# Altium schematic symbol library Artemis_Plus.SCHLIB: 35 symbols
Pins are listed as number, name and electrical type; pins without a type are passive.

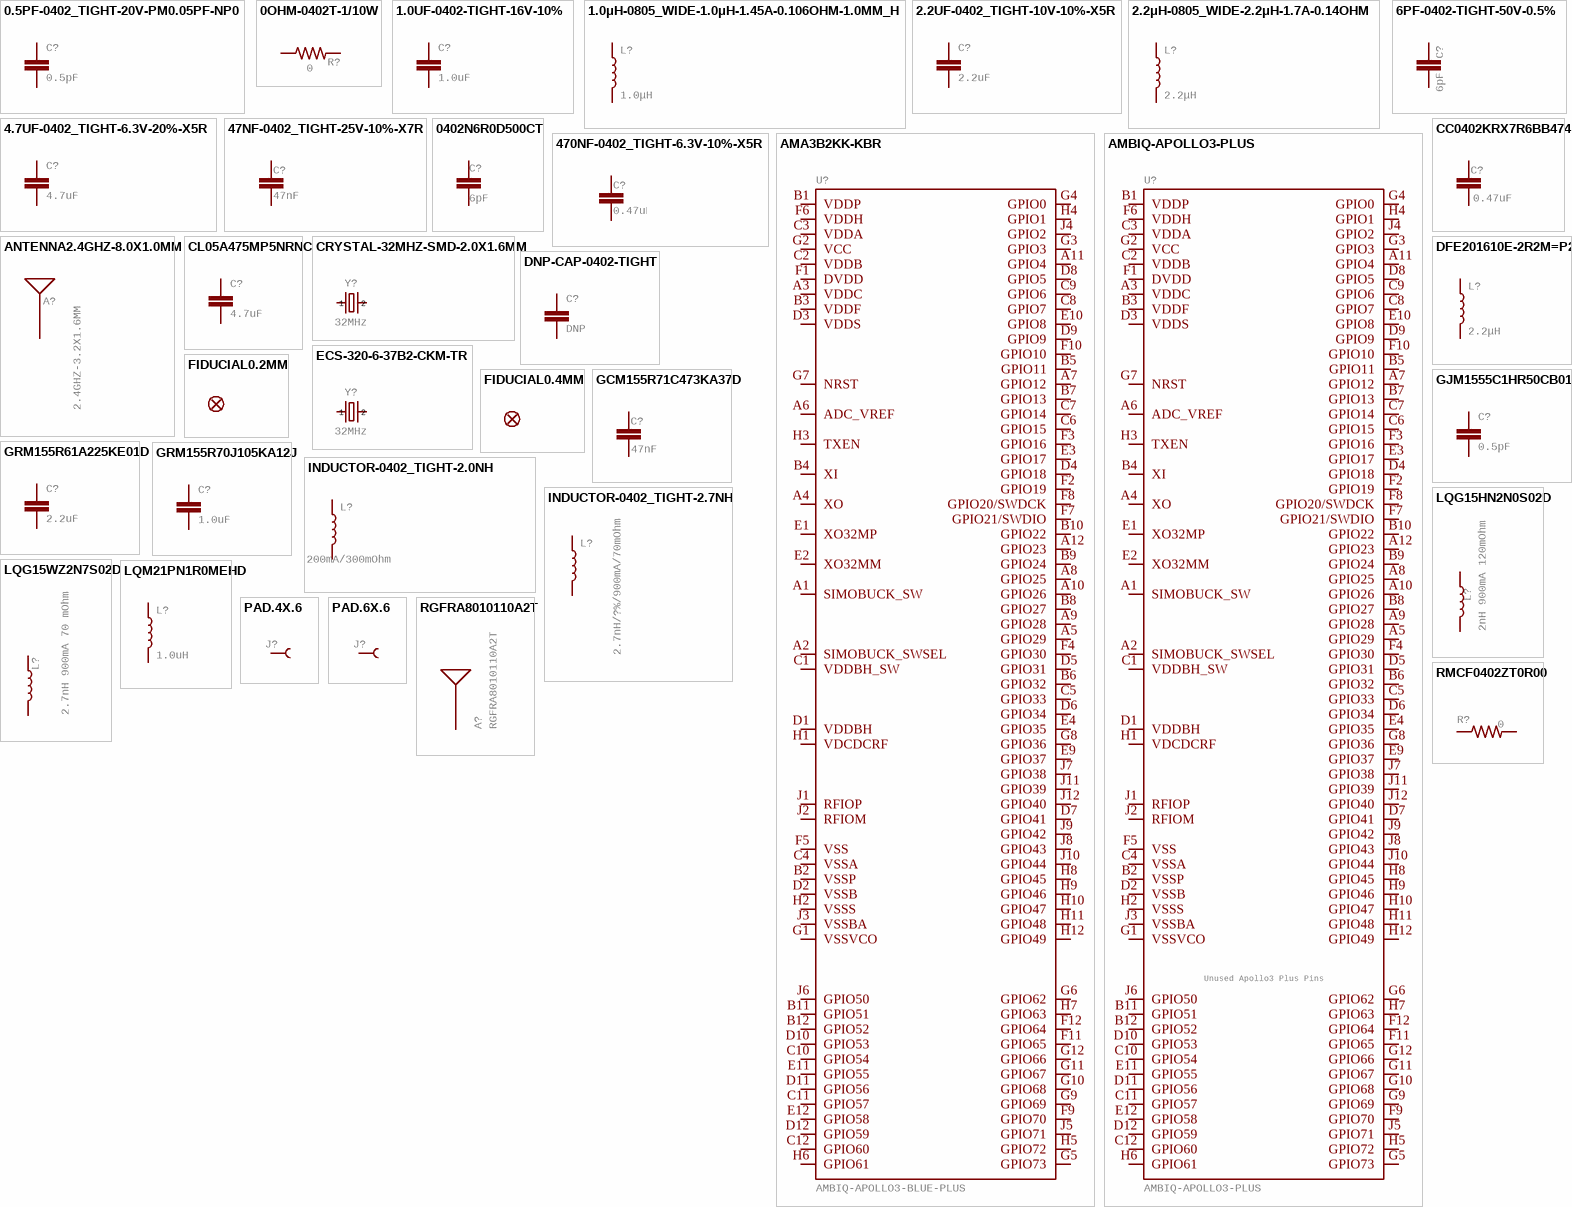
[diagram p0: symbols 0.5PF-0402_TIGHT-20V-PM0.05PF-NP0 to RMCF0402ZT0R00]

## 0.5PF-0402_TIGHT-20V-PM0.05PF-NP0
designator C?, comment 0.5pF
0.5pF ceramic capacitors    A capacitor is a passive two-terminal electrical component used to store electrical energy temporarily in an electric field.; GateName_1: G$1; SymbolName_1: CAP; DeviceName: -0402_TIGHT-20V-PM0.05PF-NP0; PROD_ID: CAP-14231; LibraryName: SparkFun-Capacitors; DeviceSetName: 0.5PF
footprint 0402-TIGHT
pins: 1, 2

## 0OHM-0402T-1/10W
designator R?, comment 0
0Î© resistor    A resistor is a passive two-terminal electrical component that implements electrical resistance as a circuit element. Resistors act to reduce current flow, and, at the same time, act to lower voltage levels within circuits. - Wikipedia; GateName_1: G$1; DeviceName: -0402T-1/10W; DeviceSetName: 0OHM; PROD_ID: RES-14244; SymbolName_1: RESISTOR; LibraryName: SparkFun-Resistors
footprint 0402-TIGHT
pins: 1, 2

## 1.0UF-0402-TIGHT-16V-10%
designator C?, comment 1.0uF
1ÂµF ceramic capacitors    A capacitor is a passive two-terminal electrical component used to store electrical energy temporarily in an electric field.; GateName_1: G$1; SymbolName_1: CAP; DeviceName: -0402-TIGHT-16V-10%; PROD_ID: CAP-12417; LibraryName: ambiq; DeviceSetName: 1.0UF
footprint 0402-TIGHT
pins: 1, 2

## 1.0μH-0805_WIDE-1.0μH-1.45A-0.106OHM-1.0MM_H
designator L?, comment 1.0μH
1.0Î¼H Inductor    Resist changes in electrical current. Basically a coil of wire.   SparkFun Products:  SparkFun Edge; GateName_1: G$1; DeviceName: -0805_WIDE-1.0μH-1.45A-0.106OHM-1.0MM_H; PROD_ID: NDUC-14375; SymbolName_1: INDUCTOR; LibraryName: SparkFun-Coils; DeviceSetName: 1.0μH
footprint 0805-WIDE
pins: 1, 2

## 2.2UF-0402_TIGHT-10V-10%-X5R
designator C?, comment 2.2uF
2.2ÂµF ceramic capacitors    A capacitor is a passive two-terminal electrical component used to store electrical energy temporarily in an electric field.; GateName_1: G$1; SymbolName_1: CAP; DeviceName: -0402_TIGHT-10V-10%-X5R; PROD_ID: CAP-14232; LibraryName: SparkFun-Capacitors; DeviceSetName: 2.2UF
footprint 0402-TIGHT
pins: 1, 2

## 2.2μH-0805_WIDE-2.2μH-1.7A-0.14OHM
designator L?, comment 2.2μH
2.2Î¼H Inductor    Resist changes in electrical current. Basically a coil of wire.   SparkFun Products:  SparkFun Edge - HX711; GateName_1: G$1; DeviceName: -0805_WIDE-2.2μH-1.7A-0.14OHM; PROD_ID: NDUC-14234; SymbolName_1: INDUCTOR; LibraryName: SparkFun-Coils; DeviceSetName: 2.2μH
footprint 0805-WIDE
pins: 1, 2

## 4.7UF-0402_TIGHT-6.3V-20%-X5R
designator C?, comment 4.7uF
4.7ÂµF ceramic capacitors    A capacitor is a passive two-terminal electrical component used to store electrical energy temporarily in an electric field.; GateName_1: G$1; SymbolName_1: CAP; DeviceName: -0402_TIGHT-6.3V-20%-X5R; PROD_ID: CAP-14240; LibraryName: SparkFun-Capacitors; DeviceSetName: 4.7UF
footprint 0402-TIGHT
pins: 1, 2

## 6PF-0402-TIGHT-50V-0.5%
designator C?, comment 6pF
6pF ceramic capacitors    A capacitor is a passive two-terminal electrical component used to store electrical energy temporarily in an electric field.; GateName_1: G$1; SymbolName_1: CAP; DeviceName: -0402-TIGHT-50V-0.5%; PROD_ID: CAP-13455; LibraryName: ambiq; DeviceSetName: 6PF
footprint 0402-TIGHT
pins: 1, 2

## 47NF-0402_TIGHT-25V-10%-X7R
designator C?, comment 47nF
47nF ceramic capacitors    A capacitor is a passive two-terminal electrical component used to store electrical energy temporarily in an electric field.; GateName_1: G$1; SymbolName_1: CAP; DeviceName: -0402_TIGHT-25V-10%-X7R; PROD_ID: CAP-14243; LibraryName: SparkFun-Capacitors; DeviceSetName: 47NF
footprint 0402-TIGHT
pins: 1, 2

## 0402N6R0D500CT
designator C?, comment 6pF
0402 6 pF 50 V ±0.5 pF Tolerance C0G/NP0 SMT Multilayer Ceramic Capacitor; Manufacturer: Walsin Technologies; Manufacturer Part Number: 0402N6R0D500CT; Voltage Rating: 50V; Dielectric: C0G; Supplier 1: Digi-Key; Supplier Part Number 1: 1292-1348-1-ND; RoHS: Yes; Category: Ceramic Capacitors; Stock 1: 55050; Pricing 1: 1=0.1, 10=0.024, 50=0.0134, 100=0.0109, 500=0.00778, 1000=0.00611, 2500=0.00556, 5000=0.00511 (USD); Case/Package: 0402; Case Code (Metric): 1005; Case Code (Imperial): 0402; Min Operating Temperature: -55°C; Max Operating Temperature: 125°C; Value: 6pF; Packaging: Tape and Reel; Voltage Rating (DC): 50V; Reach SVHC Compliant: Unknown; RoHS Compliant: Yes; Lead Free: 5697LeadFree; ComponentLink1URL: http://www.farnell.com/datasheets/2340522.pdf?src-supplier=Farnell; ComponentLink1Description: http://www.farnell.com/datasheets/2340522.pdf?src-supplier=Farnell; ComponentLink2URL: http://www.farnell.com/datasheets/1958513.pdf?src-supplier=Farnell; ComponentLink2Description: http://www.farnell.com/datasheets/1958513.pdf?src-supplier=Farnell; ComponentLink3URL: http://www.passivecomponent.com/wp-content/uploads/2018/10/MLCC.pdf?src-supplier=Digi-Key; ComponentLink3Description: http://www.passivecomponent.com/wp-content/uploads/2018/10/MLCC.pdf?src-supplier=Digi-Key; ComponentLink4URL: https://datasheet.octopart.com/0402N6R0D500CT-Walsin-Technologies-datasheet-85392065.pdf?src-supplier=Element14; ComponentLink4Description: https://datasheet.octopart.com/0402N6R0D500CT-Walsin-Technologies-datasheet-85392065.pdf?src-supplier=Element14; ComponentLink5URL: https://datasheet.octopart.com/0402N6R0D500CT-Walsin-Technologies-datasheet-136037192.pdf?src-supplier=TECHDesign; ComponentLink5Description: https://datasheet.octopart.com/0402N6R0D500CT-Walsin-Technologies-datasheet-136037192.pdf?src-supplier=TECHDesign
footprint 0402-TIGHT
footprint 0402-TIGHT-C (0402-TIGHT Capacitor)
pins: 1, 2

## 470NF-0402_TIGHT-6.3V-10%-X5R
designator C?, comment 0.47uF
0.47uF/470nF ceramic capacitors    A capacitor is a passive two-terminal electrical component used to store electrical energy temporarily in an electric field.; GateName_1: G$1; SymbolName_1: CAP; DeviceName: -0402_TIGHT-6.3V-10%-X5R; DeviceSetName: 470NF; PROD_ID: CAP-14242; LibraryName: SparkFun-Capacitors
footprint 0402-TIGHT
pins: 1, 2

## AMA3B2KK-KBR
designator U?, comment AMBIQ-APOLLO3-BLUE-PLUS
Apollo3 Blue Plus 96 MHz Cortex M4F, 2048 KB Flash, 768 KB RAM, BLE 5, BGA; Manufacturer: Ambiq Micro; Manufacturer Part Number: AMA3B2KK-KBR; Supplier 1: Digi-Key; Supplier Part Number 1: 5128-AMA3B2KK-KBRCT-ND; RoHS: No; Category: Uncategorized; Stock 1: 2496; Pricing 1: 1=6.61, 10=5.972, 25=5.694, 100=4.944, 250=4.72176, 500=4.30512, 1000=3.74962, 2500=3.61075 (USD)
footprint BGA-104-5.3X4.3MM
footprint BGA-104-5.3X4.3MM - SM (BGA-104-5.3X4.3MM With Solder Mask Defined)
footprint BGA-104-5.3X4.3MM - Sprite-mixed-0.2-0.19 (BGA-104-5.3X4.3MM)
footprint BGA-104-5.3X4.3MM - Sprite-mixed-0.2-0.19 - 3DModel (BGA-104-5.3X4.3MM)
pins: A1 SIMOBUCK_SW (io), A2 SIMOBUCK_SWSEL (io), A3 VDDC (io), A4 XO (io), A5 GPIO29 (io), A6 ADC_VREF (io), A7 GPIO12 (io), A8 GPIO25 (io), A9 GPIO28 (io), A10 GPIO26 (io), A11 GPIO4 (io), A12 GPIO23 (io), B1 VDDP (io), B2 VSSP (io), B3 VDDF (io), B4 XI (io), B5 GPIO11 (io), B6 GPIO32 (io), B7 GPIO13 (io), B8 GPIO27 (io), B9 GPIO24 (io), B10 GPIO22 (io), B11 GPIO51 (io), B12 GPIO52 (io), C1 VDDBH_SW (io), C2 VDDB (io), C3 VDDA (io), C4 VSSA (io), C5 GPIO33 (io), C6 GPIO15 (io), C7 GPIO14 (io), C8 GPIO7 (io), C9 GPIO6 (io), C10 GPIO54 (io), C11 GPIO57 (io), C12 GPIO60 (io), D1 VDDBH (io), D2 VSSB (io), D3 VDDS (io), D4 GPIO18 (io), D5 GPIO31 (io), D6 GPIO34 (io), D7 GPIO41 (io), D8 GPIO5 (io), D9 GPIO9 (io), D10 GPIO53 (io), D11 GPIO56 (io), D12 GPIO59 (io), E1 XO32MP (io), E2 XO32MM (io), E3 GPIO17 (io), E4 GPIO35 (io), E9 GPIO37 (io), E10 GPIO8 (io), E11 GPIO55 (io), E12 GPIO58 (io), F1 DVDD (io), F2 GPIO19 (io), F3 GPIO16 (io), F4 GPIO30 (io), F5 VSS (io), F6 VDDH (io), F7 GPIO21/SWDIO (io), F8 GPIO20/SWDCK (io), F9 GPIO70 (io), F10 GPIO10 (io), F11 GPIO65 (io), F12 GPIO64 (io), G1 VSSVCO (io), G2 VCC (io), G3 GPIO3 (io), G4 GPIO0 (io), G5 GPIO73 (io), G6 GPIO62 (io), G7 NRST (io), G8 GPIO36 (io), G9 GPIO69 (io), G10 GPIO68 (io), G11 GPIO67 (io), G12 GPIO66 (io), H1 VDCDCRF (io), H2 VSSS (io), H3 TXEN (io), H4 GPIO1 (io), H5 GPIO72 (io), H6 GPIO61 (io), H7 GPIO63 (io), H8 GPIO45 (io), H9 GPIO46 (io), H10 GPIO47 (io), H11 GPIO48 (io), H12 GPIO49 (io), J1 RFIOP (io), J2 RFIOM (io), J3 VSSBA (io), J4 GPIO2 (io), J5 GPIO71 (io), J6 GPIO50 (io), J7 GPIO38 (io), J8 GPIO43 (io), J9 GPIO42 (io), J10 GPIO44 (io), J11 GPIO39 (io), J12 GPIO40 (io)

## AMBIQ-APOLLO3-PLUS
designator U?  UnusedApollo3PlusPins: Unused Apollo3 Plus Pins
GateName_1: G$1; SymbolName_1: ABMIQ-APOLLO_3_PLUS; LibraryName: SparkFun-IC-Microcontroller; DeviceSetName: AMBIQ-APOLLO3-PLUS; PROD_ID: PROD_ID
footprint BGA-104-5.3X4.3MM
footprint BGA-104-5.3X4.3MM - SM (BGA-104-5.3X4.3MM With Solder Mask Defined)
footprint BGA-104-5.3X4.3MM - Sprite-mixed-0.2-0.19 (BGA-104-5.3X4.3MM)
pins: A1 SIMOBUCK_SW (io), A2 SIMOBUCK_SWSEL (io), A3 VDDC (io), A4 XO (io), A5 GPIO29 (io), A6 ADC_VREF (io), A7 GPIO12 (io), A8 GPIO25 (io), A9 GPIO28 (io), A10 GPIO26 (io), A11 GPIO4 (io), A12 GPIO23 (io), B1 VDDP (io), B2 VSSP (io), B3 VDDF (io), B4 XI (io), B5 GPIO11 (io), B6 GPIO32 (io), B7 GPIO13 (io), B8 GPIO27 (io), B9 GPIO24 (io), B10 GPIO22 (io), B11 GPIO51 (io), B12 GPIO52 (io), C1 VDDBH_SW (io), C2 VDDB (io), C3 VDDA (io), C4 VSSA (io), C5 GPIO33 (io), C6 GPIO15 (io), C7 GPIO14 (io), C8 GPIO7 (io), C9 GPIO6 (io), C10 GPIO54 (io), C11 GPIO57 (io), C12 GPIO60 (io), D1 VDDBH (io), D2 VSSB (io), D3 VDDS (io), D4 GPIO18 (io), D5 GPIO31 (io), D6 GPIO34 (io), D7 GPIO41 (io), D8 GPIO5 (io), D9 GPIO9 (io), D10 GPIO53 (io), D11 GPIO56 (io), D12 GPIO59 (io), E1 XO32MP (io), E2 XO32MM (io), E3 GPIO17 (io), E4 GPIO35 (io), E9 GPIO37 (io), E10 GPIO8 (io), E11 GPIO55 (io), E12 GPIO58 (io), F1 DVDD (io), F2 GPIO19 (io), F3 GPIO16 (io), F4 GPIO30 (io), F5 VSS (io), F6 VDDH (io), F7 GPIO21/SWDIO (io), F8 GPIO20/SWDCK (io), F9 GPIO70 (io), F10 GPIO10 (io), F11 GPIO65 (io), F12 GPIO64 (io), G1 VSSVCO (io), G2 VCC (io), G3 GPIO3 (io), G4 GPIO0 (io), G5 GPIO73 (io), G6 GPIO62 (io), G7 NRST (io), G8 GPIO36 (io), G9 GPIO69 (io), G10 GPIO68 (io), G11 GPIO67 (io), G12 GPIO66 (io), H1 VDCDCRF (io), H2 VSSS (io), H3 TXEN (io), H4 GPIO1 (io), H5 GPIO72 (io), H6 GPIO61 (io), H7 GPIO63 (io), H8 GPIO45 (io), H9 GPIO46 (io), H10 GPIO47 (io), H11 GPIO48 (io), H12 GPIO49 (io), J1 RFIOP (io), J2 RFIOM (io), J3 VSSBA (io), J4 GPIO2 (io), J5 GPIO71 (io), J6 GPIO50 (io), J7 GPIO38 (io), J8 GPIO43 (io), J9 GPIO42 (io), J10 GPIO44 (io), J11 GPIO39 (io), J12 GPIO40 (io)

## ANTENNA2.4GHZ-8.0X1.0MM
designator A?, comment 2.4GHZ-3.2X1.6MM
Single-ended Antennae    2.4GHz and antennae with just one terminal. These are all chip antennae.   2.4GHz (WiFi/BT/ZigBee) Antennae ANT-2.4GHZ-6.5X2.2MM - 6.5 x 2.2 mm chip antenna. (SparkFun Product)  ANT-2.4GHZ8.0X1.0MM -  8.0 x 1.0 mm chip antenna. (Datasheet)  ANT-2.4GHZ9.5X2.0MM - 9.5 x 2.0 mm chip antenna. (SparkFun Product); GateName_1: G$1; DeviceName: 2.4GHZ-8.0X1.0MM; PROD_ID: ANT-14377; SymbolName_1: ANTENNA; LibraryName: SparkFun-RF; DeviceSetName: ANTENNA
footprint ANT-2.4GHZ-8.0X1.0MM
pins: FEED SIGNAL (io)

## CC0402KRX7R6BB474
designator C?, comment 0.47uF
Multilayer Ceramic Capacitor, 0.47 uF, 50 V, ± 2%, C0G (NP0), 0402 [1005 Metric]; Manufacturer: Yageo; Manufacturer Part Number: CC0402KRX7R6BB474; Material: 4241ConductorMaterial; Value: 470nF; Voltage Rating: 10V; Tolerance: 10%; Dielectric: X7R; Temperature Coefficient: 30ppm/°C; Supplier 1: Digi-Key; Supplier Part Number 1: 13-CC0402KRX7R6BB474CT-ND; RoHS: Yes; Category: Ceramic Capacitors; Stock 1: 3340; Pricing 1: 10=0.17, 50=0.1022, 100=0.0864, 500=0.05908, 1000=0.05227, 2500=0.05, 5000=0.04545 (USD); Mounting Technology: Surface Mount; Case/Package: 0402; Min Operating Temperature: -55°C; Max Operating Temperature: 125°C; Packaging: Tape and Reel; Voltage Rating (DC): 10V; Series: CC; Length: 0.039inch; Width: 0.02inch; Height: 550um; Thickness: 0.022inch; Lead Free: Lead Free; Halogen Free: Halogen Free; RoHS Compliant: Yes; ComponentLink1URL: http://www.yageo.com/documents/recent/UPY-GPHC_X7R_6.3V-to-50V_18.pdf?src-supplier=Digi-Key; ComponentLink1Description: http://www.yageo.com/documents/recent/UPY-GPHC_X7R_6.3V-to-50V_18.pdf?src-supplier=Digi-Key; ComponentLink2URL: https://datasheet.octopart.com/CC0402KRX7R6BB474-Yageo-datasheet-151948686.pdf?src-supplier=Farnell; ComponentLink2Description: https://datasheet.octopart.com/CC0402KRX7R6BB474-Yageo-datasheet-151948686.pdf?src-supplier=Farnell; ComponentLink3URL: https://datasheet.octopart.com/CC0402KRX7R6BB474-Yageo-datasheet-166511530.pdf?src-supplier=Future+Electronics; ComponentLink3Description: https://datasheet.octopart.com/CC0402KRX7R6BB474-Yageo-datasheet-166511530.pdf?src-supplier=Future+Electronics
footprint 0402-TIGHT
footprint 0402-TIGHT-C (0402-TIGHT Capacitor)
pins: 1, 2

## CL05A475MP5NRNC
designator C?, comment 4.7uF
Multilayer Ceramic Capacitor, 4.7 uF, 10 V, ± 20%, X5R, 0402 [1005 Metric]; Manufacturer: Samsung; Manufacturer Part Number: CL05A475MP5NRNC; Material: 4241ConductorMaterial; Voltage Rating: 10V; Supplier 1: Digi-Key; Supplier Part Number 1: 1276-1482-1-ND; RoHS: Yes; Category: Ceramic Capacitors; Stock 1: 3126621; Pricing 1: 1=0.1, 10=0.068, 50=0.0368, 100=0.0301, 500=0.0215, 1000=0.01689, 2500=0.01535, 5000=0.01412 (USD); Mounting Technology: Surface Mount; Case/Package: 0402; Case Code (Metric): 1005; Case Code (Imperial): 0402; Min Operating Temperature: -55°C; Max Operating Temperature: 85°C; Packaging: Cut Tape; Value: 4.7uF; Tolerance: 20%; Dielectric: X5R; Series: CL; Height: 550um; Lead Free: Lead Free; RoHS Compliant: Yes; ComponentLink1URL: https://datasheet.ciiva.com/25786/cl05a475mp5nrnc-25786963.pdf?src-supplier=Digi-Key; ComponentLink1Description: https://datasheet.ciiva.com/25786/cl05a475mp5nrnc-25786963.pdf?src-supplier=Digi-Key; ComponentLink2URL: https://datasheet.ciiva.com/16437/cl05b104kq5nnnc-16437353.pdf?src-supplier=Future+Electronics; ComponentLink2Description: https://datasheet.ciiva.com/16437/cl05b104kq5nnnc-16437353.pdf?src-supplier=Future+Electronics
footprint 0402-TIGHT
footprint 0402-TIGHT-C (0402-TIGHT Capacitor)
pins: 1, 2

## CRYSTAL-32MHZ-SMD-2.0X1.6MM
designator Y?, comment 32MHz
32MHz Crystal    Digikey Example Frequency: 32MHz  Frequency Stability: Â±20ppm  Frequency Tolerance: Â±20ppm  Load Capacitance: 6pF       SparkFun Products SparkFun nRF52832 Breakout; GateName_1: G$1; DeviceName: -SMD-2.0X1.6MM; DeviceSetName: CRYSTAL-32MHZ; PROD_ID: XTAL-13459; SymbolName_1: CRYSTAL; LibraryName: SparkFun-Clocks; 1: 1; 2: 2
footprint CRYSTAL-SMD-2.0X1.6MM
pins: 1, 3 2

## DFE201610E-2R2M=P2
designator L?, comment 2.2μH
Inductor Power Shielded Wirewound 2.2uH 20% 1MHz Metal 1.7A 0.14Ohm DCR 0806 T/R; Manufacturer: Murata; Manufacturer Part Number: DFE201610E-2R2M=P2; Supplier 1: Digi-Key; Supplier Part Number 1: 490-17728-1-ND; RoHS: Yes; Category: Fixed Inductors; Stock 1: 38138; Pricing 1: 1=0.32, 10=0.276, 25=0.2364, 50=0.2166, 100=0.197, 250=0.18512, 500=0.16544, 1000=0.13393 (USD); Case/Package: Metal; RoHS Compliant: Yes; ComponentLink1URL: http://www.farnell.com/datasheets/2339713.pdf?src-supplier=Farnell; ComponentLink1Description: http://www.farnell.com/datasheets/2339713.pdf?src-supplier=Farnell; ComponentLink2URL: https://datasheet.octopart.com/DFE201610E-2R2M%3DP2-Murata-datasheet-90967093.pdf?src-supplier=Element14; ComponentLink2Description: https://datasheet.octopart.com/DFE201610E-2R2M%3DP2-Murata-datasheet-90967093.pdf?src-supplier=Element14; ComponentLink3URL: http://search.murata.co.jp/Ceramy/image/img/P02/J(E)TE243A-0001_DFE201610E_reference.pdf?src-supplier=Digi-Key; ComponentLink3Description: http://search.murata.co.jp/Ceramy/image/img/P02/J(E)TE243A-0001_DFE201610E_reference.pdf?src-supplier=Digi-Key
footprint 0805-WIDE
footprint DFE201610E-2R2MP2 (DFE201610E-2R2MP2 footprint)
pins: 1, 2

## DNP-CAP-0402-TIGHT
designator C?, comment DNP
footprint 0402-TIGHT
pins: 1, 2

## ECS-320-6-37B2-CKM-TR
designator Y?, comment 32MHz
Crystal 32 Mhz 6PF SMD; Manufacturer: ECS International; Manufacturer Part Number: ECS-320-6-37B2-CKM-TR; Supplier 1: Digi-Key; Supplier Part Number 1: 50-ECS-320-6-37B2-CKM-TRCT-ND; RoHS: No; Category: Uncategorized; Stock 1: 16034; Pricing 1: 1=0.4, 10=0.334, 50=0.3006, 100=0.2673, 500=0.25392, 1000=0.21383 (USD); 1: 1; 2: 2
footprint CRYSTAL-SMD-2.0X1.6MM
footprint ECS-320-6-37B2-CKM-TR (ECS-320-6-37B2-CKM-TR Footprint)
pins: 1, 3 2

## FIDUCIAL0.2MM
designator FD?  (value not drawn)  (no BOM)
Fiducial Alignment Points    Point-of-reference for pick-and-place machines and other optical instruments.; GateName_1: G$1; DeviceName: 0.2MM; SymbolName_1: FIDUCIAL; LibraryName: SparkFun-Aesthetics; DeviceSetName: FIDUCIAL
footprint FIDUCIAL-0.2MM
footprint FIDUCIAL-0.4MM

## FIDUCIAL0.4MM
designator FD?  (value not drawn)  (no BOM)
Fiducial Alignment Points    Point-of-reference for pick-and-place machines and other optical instruments.; GateName_1: G$1; DeviceName: 0.4MM; SymbolName_1: FIDUCIAL; LibraryName: FIDUCIAL; DeviceSetName: FIDUCIAL
footprint FIDUCIAL-0.4MM

## GCM155R71C473KA37D
designator C?, comment 47nF
CAP CER 0.047UF 16V 10% X7R 0402; Manufacturer: Murata; Manufacturer Part Number: GCM155R71C473KA37D; Supplier 1: Digi-Key; Supplier Part Number 1: 490-6042-1-ND; RoHS: Yes; Category: Ceramic Capacitors; Stock 1: 635782; Pricing 1: 1=0.1, 10=0.048, 50=0.0262, 100=0.0214, 500=0.01528, 1000=0.01201, 2500=0.01092, 5000=0.01005 (USD); Mounting Technology: Surface Mount; Case/Package: 0402; Case Code (Metric): 1005; Case Code (Imperial): 0402; Min Operating Temperature: -55°C; Max Operating Temperature: 125°C; Value: 47nF; Voltage Rating: 16V; Tolerance: 10%; Packaging: Tape and Reel; Package Quantity: 1; Dielectric: X7R; Voltage Rating (DC): 16V; Termination: SMD/SMT; Series: GCM; Construction: Flat; Length: 1mm; Width: 0.02inch; Height: 0.5mm; Thickness: 0.022inch; Depth: 0.5mm; Ratings: AEC-Q200; Radiation Hardening: No; RoHS Compliant: Yes; ComponentLink1URL: https://datasheet.ciiva.com/11607/product-11607786.pdf?src-supplier=Avnet; ComponentLink1Description: https://datasheet.ciiva.com/11607/product-11607786.pdf?src-supplier=Avnet; ComponentLink2URL: https://datasheet.ciiva.com/6270/s0717e-6270764.pdf?src-supplier=Digi-Key; ComponentLink2Description: https://datasheet.ciiva.com/6270/s0717e-6270764.pdf?src-supplier=Digi-Key; ComponentLink3URL: https://datasheet.ciiva.com/6270/s0717e-6270765.pdf?src-supplier=Digi-Key; ComponentLink3Description: https://datasheet.ciiva.com/6270/s0717e-6270765.pdf?src-supplier=Digi-Key; ComponentLink4URL: https://datasheet.ciiva.com/6270/s0717e-6270766.pdf?src-supplier=Digi-Key; ComponentLink4Description: https://datasheet.ciiva.com/6270/s0717e-6270766.pdf?src-supplier=Digi-Key
footprint 0402-TIGHT
footprint 0402-TIGHT-C (0402-TIGHT Capacitor)
pins: 1, 2

## GJM1555C1HR50CB01D
designator C?, comment 0.5pF
Multilayer Ceramic Capacitor, 0.5 pF, 50 V, ± 0.25pF, C0G (NP0), 0402 [1005 Metric]; Manufacturer: Murata; Manufacturer Part Number: GJM1555C1HR50CB01D; Voltage Rating: 50V; Supplier 1: Digi-Key; Supplier Part Number 1: 490-3081-1-ND; RoHS: Yes; Category: Ceramic Capacitors; Stock 1: 21170; Pricing 1: 1=0.1, 10=0.044, 50=0.024, 100=0.0196, 500=0.01402, 1000=0.01101, 2500=0.01001, 5000=0.00921 (USD); Mounting Technology: Surface Mount; Case/Package: 0402; Case Code (Imperial): 0402; Case Code (Metric): 1005; Min Operating Temperature: -55°C; Max Operating Temperature: 125°C; Value: 0.5pF; Dielectric: C0G; Packaging: Tape and Reel; Package Quantity: 1; Termination: SMD/SMT; Voltage Rating (DC): 50V; Series: GJM; Construction: Flat; Length: 0.039inch; Width: 0.02inch; Height: 0.5mm; Thickness: 0.022inch; Depth: 0.5mm; Radiation Hardening: No; Lead Free: Lead Free; RoHS Compliant: Yes; ComponentLink1URL: https://datasheet.ciiva.com/129/chip20monolithic20cer20caps20c02e-13-129648.pdf?src-supplier=Digi-Key; ComponentLink1Description: https://datasheet.ciiva.com/129/chip20monolithic20cer20caps20c02e-13-129648.pdf?src-supplier=Digi-Key; ComponentLink2URL: https://datasheet.ciiva.com/16440/gjm1555c1hr50cb01d-16440467.pdf?src-supplier=Future+Electronics; ComponentLink2Description: https://datasheet.ciiva.com/16440/gjm1555c1hr50cb01d-16440467.pdf?src-supplier=Future+Electronics; ComponentLink3URL: https://datasheet.ciiva.com/11617/c02e-11617174.pdf?src-supplier=Avnet; ComponentLink3Description: https://datasheet.ciiva.com/11617/c02e-11617174.pdf?src-supplier=Avnet; ComponentLink4URL: https://datasheet.ciiva.com/29541/partnumbering-e-01-29541100.pdf?src-supplier=Digi-Key; ComponentLink4Description: https://datasheet.ciiva.com/29541/partnumbering-e-01-29541100.pdf?src-supplier=Digi-Key; ComponentLink5URL: https://datasheet.ciiva.com/29541/partnumbering-e-01-29541101.pdf?src-supplier=Digi-Key; ComponentLink5Description: https://datasheet.ciiva.com/29541/partnumbering-e-01-29541101.pdf?src-supplier=Digi-Key
footprint 0402-TIGHT
footprint 0402-TIGHT-C (0402-TIGHT Capacitor)
pins: 1, 2

## GRM155R61A225KE01D
designator C?, comment 2.2uF
Multilayer Ceramic Capacitor, 2.2 uF, 10 V, ± 10%, X5R, 0402 [1005 Metric]; Manufacturer: Murata; Manufacturer Part Number: GRM155R61A225KE01D; Supplier 1: Digi-Key; Supplier Part Number 1: 490-GRM155R61A225KE01DCT-ND; RoHS: Yes; Category: Ceramic Capacitors; Stock 1: 9438; Pricing 1: 1=0.1, 10=0.046, 50=0.0252, 100=0.0205, 500=0.01466, 1000=0.01151, 2500=0.01046, 5000=0.00963 (USD); ComponentLink1URL: https://datasheet.octopart.com/GRM155R61A225KE01D-Murata-datasheet-165579666.pdf?src-supplier=TME; ComponentLink1Description: https://datasheet.octopart.com/GRM155R61A225KE01D-Murata-datasheet-165579666.pdf?src-supplier=TME
footprint 0402-TIGHT
footprint 0402-TIGHT-C (0402-TIGHT Capacitor)
pins: 1, 2

## GRM155R70J105KA12J
designator C?, comment 1.0uF
Multilayer Ceramic Capacitor, 1 uF, 6.3 V, ± 10%, X7R, 0402 [1005 Metric]; Manufacturer: Murata; Manufacturer Part Number: GRM155R70J105KA12J; Value: 1uF; Voltage Rating: 6.3V; Supplier 1: Digi-Key; Supplier Part Number 1: 490-13339-1-ND; RoHS: Yes; Category: Ceramic Capacitors; Stock 1: 4901077; Pricing 1: 1=0.1, 10=0.033, 50=0.0178, 100=0.0145, 500=0.01036, 1000=0.00813, 2500=0.00739, 5000=0.0068 (USD); Mounting Technology: Surface Mount; Case/Package: 0402; Pins: 2NUMBER; Case Code (Metric): 1005; Case Code (Imperial): 0402; Weight: 0.000212oz; Min Operating Temperature: -55°C; Max Operating Temperature: 125°C; Packaging: Tape and Reel; Tolerance: 10%; Dielectric: X7R; Termination: SMD/SMT; Voltage Rating (DC): 6.3V; Package Quantity: 50000; Series: GRM; Length: 0.039inch; Width: 0.02inch; Thickness: 0.022inch; RoHS Compliant: Yes; ComponentLink1URL: http://www.mouser.com/ds/2/281/c02e-2905.pdf?src-supplier=Mouser; ComponentLink1Description: http://www.mouser.com/ds/2/281/c02e-2905.pdf?src-supplier=Mouser; ComponentLink2URL: https://datasheet.octopart.com/GRM155R70J105KA12J-Murata-datasheet-32479577.pdf?src-supplier=Future+Electronics; ComponentLink2Description: https://datasheet.octopart.com/GRM155R70J105KA12J-Murata-datasheet-32479577.pdf?src-supplier=Future+Electronics; ComponentLink3URL: https://datasheet.octopart.com/GRM155R70J105KA12J-Murata-datasheet-155345054.pdf?src-supplier=Element14; ComponentLink3Description: https://datasheet.octopart.com/GRM155R70J105KA12J-Murata-datasheet-155345054.pdf?src-supplier=Element14; ComponentLink4URL: http://search.murata.co.jp/Ceramy/image/img/A01X/G101/ENG/GRM155R70J105KA12-01.pdf?src-supplier=Digi-Key; ComponentLink4Description: http://search.murata.co.jp/Ceramy/image/img/A01X/G101/ENG/GRM155R70J105KA12-01.pdf?src-supplier=Digi-Key; ComponentLink5URL: https://datasheet.octopart.com/GRM155R70J105KA12J-Murata-datasheet-165579666.pdf?src-supplier=TME; ComponentLink5Description: https://datasheet.octopart.com/GRM155R70J105KA12J-Murata-datasheet-165579666.pdf?src-supplier=TME
footprint 0402-TIGHT
footprint 0402-TIGHT-C (0402-TIGHT Capacitor)
pins: 1, 2

## INDUCTOR-0402_TIGHT-2.0NH
designator L?, comment 2nH/?%/200mA/300mOhm
Inductors    Resist changes in electrical current. Basically a coil of wire.   SparkFun Products:  SparkFun Load Cell Amplifier - HX711  IOIO-OTG - V2.2; GateName_1: G$1; DeviceName: -0402_TIGHT-2.0NH; PROD_ID: NDUC-14238; SymbolName_1: INDUCTOR; LibraryName: SparkFun-Coils; DeviceSetName: INDUCTOR
footprint 0402-TIGHT
pins: 1, 2

## INDUCTOR-0402_TIGHT-2.7NH
designator L?, comment 2.7nH/?%/900mA/70mOhm
Inductors    Resist changes in electrical current. Basically a coil of wire.   SparkFun Products:  SparkFun Load Cell Amplifier - HX711  IOIO-OTG - V2.2; GateName_1: G$1; DeviceName: -0402_TIGHT-2.7NH; PROD_ID: NDUC-14236; SymbolName_1: INDUCTOR; LibraryName: SparkFun-Coils; DeviceSetName: INDUCTOR
footprint 0402-TIGHT
pins: 1, 2

## LQG15HN2N0S02D
designator L?, comment 2nH 900mA 120mOhm
FIXED IND 2NH 900MA 120 MOHM SMD; Manufacturer: Murata; Manufacturer Part Number: LQG15HN2N0S02D; Core Material: Air; Q Factor: 8; Current Rating: 300mA; Shielding: Unshielded; Self Resonant Frequency: 6GHz; DC Resistance (DCR): 120mR; Test Frequency: 100MHz; Inductor Type: MONOLITHIC; Supplier 1: Digi-Key; Supplier Part Number 1: 490-6558-1-ND; RoHS: Yes; Category: Fixed Inductors; Stock 1: 59191; Pricing 1: 1=0.1, 10=0.047, 25=0.04, 50=0.0354, 100=0.0325, 250=0.02956, 500=0.02776, 1000=0.02127, 2500=0.02009 (USD); Mounting Technology: Surface Mount; Case/Package: 0402; Pins: 2; Case Code (Metric): 1005; Case Code (Imperial): 0402; Min Operating Temperature: -55°C; Max Operating Temperature: 125°C; Package Quantity: 1; Packaging: Tape and Reel; Value: 2nH; Current: 300mA; Max DC Current: 300mA; Termination: SMD/SMT; DC Current: 300mA; Series: LQG15; Length: 1mm; Width: 0.02inch; Height: 0.5mm; Height - Seated (Max): 0.022inch; Depth: 0.55mm; Reach SVHC Compliant: No; Military Standard: Not; RoHS Compliant: Yes; ComponentLink1URL: https://datasheet.ciiva.com/11799/0900766b8090d3b8-11799042.pdf?src-supplier=Rs; ComponentLink1Description: https://datasheet.ciiva.com/11799/0900766b8090d3b8-11799042.pdf?src-supplier=Rs; ComponentLink2URL: https://datasheet.ciiva.com/4976/o05e-4976477.pdf?src-supplier=Mouser; ComponentLink2Description: https://datasheet.ciiva.com/4976/o05e-4976477.pdf?src-supplier=Mouser; ComponentLink3URL: https://datasheet.ciiva.com/8510/l0075s0083lqg15hn-8510907.pdf?src-supplier=Avnet; ComponentLink3Description: https://datasheet.ciiva.com/8510/l0075s0083lqg15hn-8510907.pdf?src-supplier=Avnet
footprint 0402-TIGHT
footprint 0402-TIGHT-L (0402-TIGHT Inductor)
pins: 1, 2

## LQG15WZ2N7S02D
designator L?, comment 2.7nH 900mA 70 mOhm
IND 2.7NH 900MA 70 MOHM; Manufacturer: Murata; Manufacturer Part Number: LQG15WZ2N7S02D; Core Material: Air; Shielding: Unshielded; DC Resistance (DCR): 70mR; Self Resonant Frequency: 6.5GHz; Test Frequency: 100MHz; Supplier 1: Digi-Key; Supplier Part Number 1: 490-15274-1-ND; RoHS: Yes; Category: Fixed Inductors; Stock 1: 21001; Pricing 1: 1=0.12, 10=0.105, 25=0.0892, 50=0.0788, 100=0.0722, 250=0.06564, 500=0.06172, 1000=0.04727, 2500=0.04464 (USD); Mounting Technology: Surface Mount; Case/Package: 0402; Case Code (Imperial): 0402; Case Code (Metric): 1005; Min Operating Temperature: -55°C; Max Operating Temperature: 125°C; Packaging: Cut Tape; Value: 2.7nH; Current Rating: 900mA; Series: LQG15; Ratings: AEC-Q200; RoHS Compliant: Yes; ComponentLink1URL: http://search.murata.co.jp/Ceramy/image/img/P02/JELF243B-9117.pdf?src-supplier=Digi-Key; ComponentLink1Description: http://search.murata.co.jp/Ceramy/image/img/P02/JELF243B-9117.pdf?src-supplier=Digi-Key
footprint 0402-TIGHT
footprint 0402-TIGHT-L (0402-TIGHT Inductor)
pins: 1, 2

## LQM21PN1R0MEHD
designator L?, comment 1.0uH
Inductor Power Chip Shielded Multi-Layer 1uH 20% 1MHz Ferrite 1.6A 0.107Ohm DCR 0805 T/R; Manufacturer: Murata; Manufacturer Part Number: LQM21PN1R0MEHD; Saturation Current: 1A; DC Resistance (DCR): 107mR; Self Resonant Frequency: 50MHz; Supplier 1: Digi-Key; Supplier Part Number 1: 490-15984-1-ND; RoHS: Yes; Category: Fixed Inductors; Stock 1: 16537; Pricing 1: 1=0.22, 10=0.194, 25=0.1668, 50=0.1528, 100=0.1389, 250=0.13056, 500=0.11666, 1000=0.09444 (USD); Mounting Technology: Surface Mount; Case/Package: 0805; Core Material: Ferrite; Case Code (Imperial): 0805; Case Code (Metric): 2012; Min Operating Temperature: -40°C; Max Operating Temperature: 85°C; Packaging: Cut Tape; Value: 1uH; Tolerance: 20%; Current Rating: 1.6A; Shielding: Shielded; Test Frequency: 1MHz; Series: LQM21; RoHS Compliant: Yes; ComponentLink1URL: https://media.digikey.com/pdf/Data%20Sheets/Murata%20PDFs/LQx_Land-Patterns.pdf?src-supplier=Digi-Key; ComponentLink1Description: https://media.digikey.com/pdf/Data%20Sheets/Murata%20PDFs/LQx_Land-Patterns.pdf?src-supplier=Digi-Key; ComponentLink2URL: http://search.murata.co.jp/Ceramy/image/img/P02/JELF243B-0070.pdf?src-supplier=Digi-Key; ComponentLink2Description: http://search.murata.co.jp/Ceramy/image/img/P02/JELF243B-0070.pdf?src-supplier=Digi-Key
footprint 0805-WIDE
footprint LQM21PN1R0MEHD (0805-WIDE)
pins: 1, 2

## PAD.4X.6
designator J?  (value not drawn)  (no BOM)
GateName_1: G$1; SymbolName_1: PAD; DeviceName: .4X.6; LibraryName: Module-Pads; DeviceSetName: PAD
footprint MODULE_PAD
pins: 1 (io)

## PAD.6X.6
designator J?, comment PAD.35X.35  (value not drawn)  (no BOM)
GateName_1: G$1; SymbolName_1: PAD; DeviceName: .6X.6; DeviceSetName: PAD
footprint MODULE_MINI_PAD
pins: 1 (io)

## RGFRA8010110A2T
designator A?
Chip Antenna, 2.45Ghz, Smt Rohs Compliant: Yes |Walsin RGFRA8010110A2T; Manufacturer: Walsin Technologies; Supplier 1: Digi-Key; Supplier Part Number 1: 1292-RGFRA8010110A2TCT-ND; Manufacturer Part Number: RGFRA8010110A2T; RoHS: No; Category: RF Antennas; Stock 1: 5842; Pricing 1: 1=0.36, 10=0.293, 25=0.2684, 100=0.1997, 250=0.181, 500=0.1498, 1000=0.11235 (USD)
footprint ANT-2.4GHZ-8.0X1.0MM
footprint RGFRA8010110A2T (RGFRA8010110A2T Footprint with 3D Model)
pins: FEED SIGNAL (io)

## RMCF0402ZT0R00
designator R?, comment 0
Res Thick Film 0402 0 Ohm Jumper Molded SMD Paper T/R; Manufacturer: Stackpole Electronics; Manufacturer Part Number: RMCF0402ZT0R00; Value: 0R; Power Rating: 63mW; Current Rating: 1A; Working Voltage: 50V; Supplier 1: Digi-Key; Supplier Part Number 1: RMCF0402ZT0R00CT-ND; RoHS: Yes; Category: Chip SMD Resistors; Stock 1: 6411237; Pricing 1: 1=0.1, 10=0.01, 25=0.0076, 50=0.0056, 100=0.0042, 250=0.0032, 500=0.00254, 1000=0.00187, 5000=0.00134 (USD); Mounting Technology: Surface Mount; Case/Package: 0402; Case Code (Metric): 1005; Case Code (Imperial): 0402; Contact Plating: Tin,Matte; Min Operating Temperature: -55°C; Max Operating Temperature: 155°C; Packaging: Tape and Reel; Number of Terminations: 2; Max Power Dissipation: 63mW; Features: Automotive AEC-Q200; Series: RMCF; Technology: THICK FILM; Construction: Rectangular; Voltage Rating: 50V; Length: 0.039inch; Width: 0.02inch; Height: 0.016inch; Depth: 0.5mm; Radiation Hardening: No; Military Standard: Not; RoHS Compliant: Yes; Lead Free: 5697LeadFree; ComponentLink1URL: https://datasheet.ciiva.com/26835/getdatasheetpartid-409751-26835612.pdf?src-supplier=Verical; ComponentLink1Description: https://datasheet.ciiva.com/26835/getdatasheetpartid-409751-26835612.pdf?src-supplier=Verical
footprint 0402-TIGHT
footprint 0402-TIGHT-R (0402-TIGHT-Resistor model)
pins: 1, 2